# Altium integrated library Renesas Logic.IntLib: 1013 symbols (part 21 of 27)
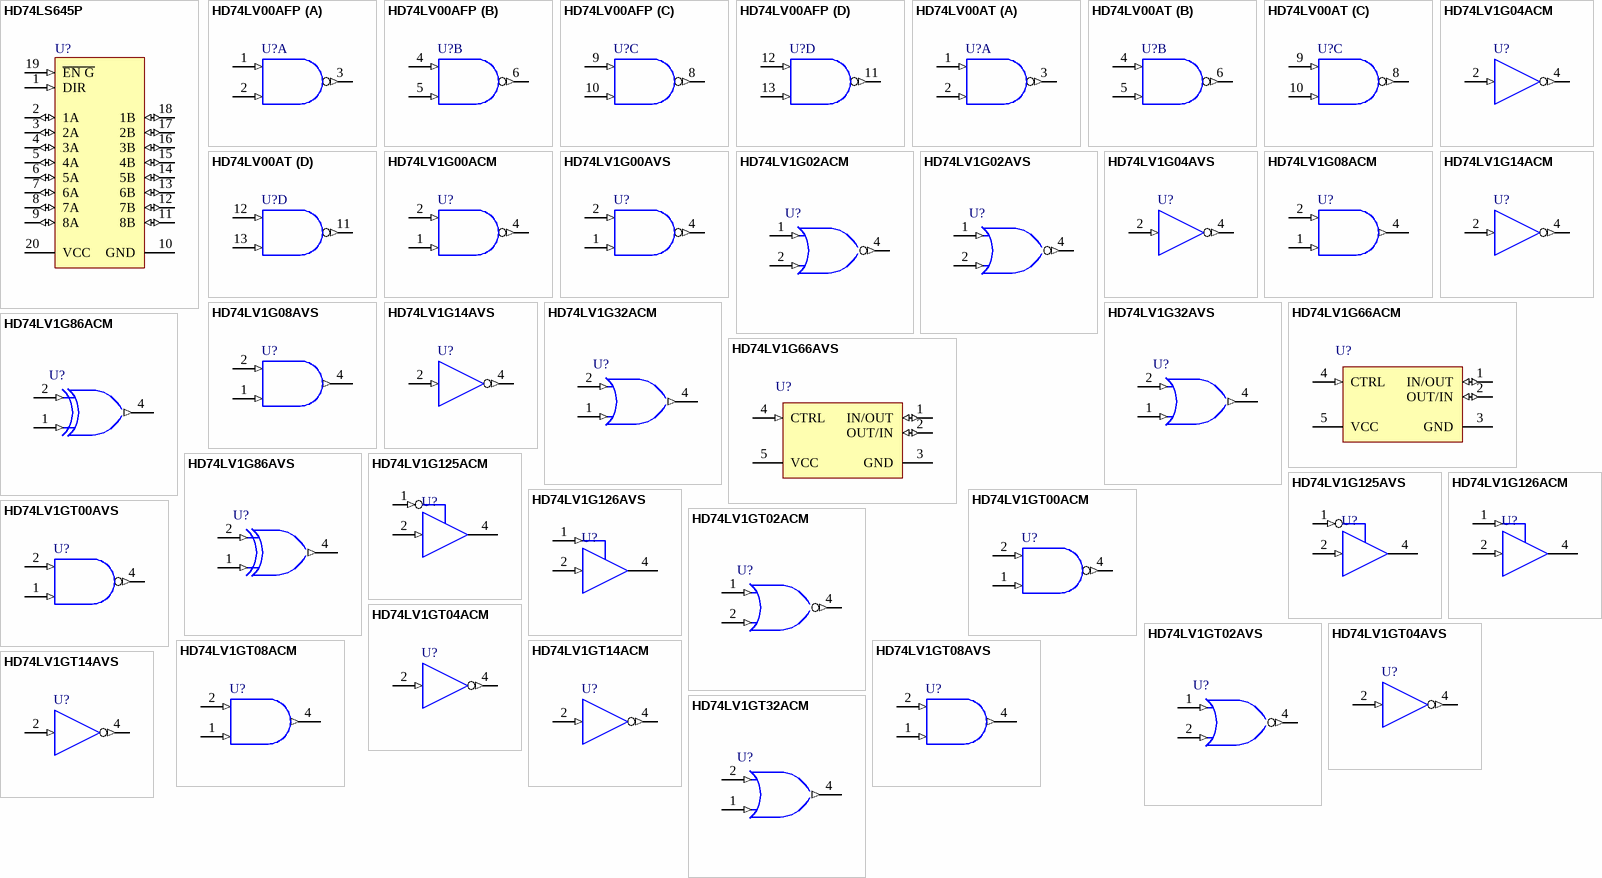
[diagram p73: symbols HD74LS645P to HD74LV1GT32ACM]

## HD74LV1GT00AVS
designator U?
2-Input NAND Gate with CMOS Logic Level Shifter; Published: 10-Feb-2010; DatasheetVersion: Rev.9.00, Mar-2008; PackageVersion: Sep-2005; PackageReference: PUSN0005KA-A; Publisher: Altium Limited; PackageDescription: 5-Pin Dual Lead-Flat Package 0.5 mm Pitch (VSON-5); Code_JEITA: P-USON5-1.2x1.6-0.50; ComponentLink1Description: Manufacturer Link; ComponentLink1URL: http://sg.renesas.com/fmwk.jsp?cnt=unilogic_lva_lvta_root.jsp&fp=/products/standard_ic/general_purpose_logic/uni_logic/unilogic_lva_lvta/; ComponentLink2Description: Datasheet; ComponentLink2URL: http://documentation.renesas.com/eng/products/logic/rej03d0115_hd74lv1gt00a.pdf; ComponentLink3Description: Packaging Specification; ComponentLink3URL: http://sg.renesas.com/media/products/common_info/package/pdf/ic/code/pusn0005ka_a.pdf
footprint PUSN0005KA-A (SOP, 5-Flat Leads, Body 1.6x1.2x0.55mm, Pitch 0.5mm, Renesas Recommended)
pins: 1 IN B (in), 2 IN A (in), 3 GND (power) hidden, 4 OUT Y (out), 5 VCC (power) hidden

## HD74LV1GT02ACM
designator U?
2-Input NOR Gate with CMOS Logic Level Shifter; Published: 10-Feb-2010; DatasheetVersion: Rev.9.00, Mar-2008; PackageVersion: Jan-2005; PackageReference: PTSP0005ZC-A; Publisher: Altium Limited; PackageDescription: 5-Pin Plastic SOT-353 Package 0.65 mm Pitch, 2.1 mm Lead Span; Code_JEITA: SC-88A; Code_IPC: SOT353-5; ComponentLink1Description: Manufacturer Link; ComponentLink1URL: http://sg.renesas.com/fmwk.jsp?cnt=unilogic_lva_lvta_root.jsp&fp=/products/standard_ic/general_purpose_logic/uni_logic/unilogic_lva_lvta/; ComponentLink2Description: Datasheet; ComponentLink2URL: http://documentation.renesas.com/eng/products/logic/rej03d0116_hd74lv1gt02a.pdf; ComponentLink3Description: Packaging Specification; ComponentLink3URL: http://sg.renesas.com/media/products/common_info/package/pdf/ic/code/ptsp0005zc_a.pdf
footprint PTSP0005ZC-A_N (SOT353, 5-Leads, Body 2x1.3mm, Pitch 0.65mm, Lead Span 2.1mm, IPC Medium Density)
footprint PTSP0005ZC-A_L (SOT353, 5-Leads, Body 2x1.3mm, Pitch 0.65mm, Lead Span 2.1mm, IPC High Density)
footprint PTSP0005ZC-A_M (SOT353, 5-Leads, Body 2x1.3mm, Pitch 0.65mm, Lead Span 2.1mm, IPC Low Density)
pins: 1 IN B (in), 2 IN A (in), 3 GND (power) hidden, 4 OUT Y (out), 5 VCC (power) hidden

## HD74LV1GT02AVS
designator U?
2-Input NOR Gate with CMOS Logic Level Shifter; Published: 10-Feb-2010; DatasheetVersion: Rev.9.00, Mar-2008; PackageVersion: Sep-2005; PackageReference: PUSN0005KA-A; Publisher: Altium Limited; PackageDescription: 5-Pin Dual Lead-Flat Package 0.5 mm Pitch (VSON-5); Code_JEITA: P-USON5-1.2x1.6-0.50; ComponentLink1Description: Manufacturer Link; ComponentLink1URL: http://sg.renesas.com/fmwk.jsp?cnt=unilogic_lva_lvta_root.jsp&fp=/products/standard_ic/general_purpose_logic/uni_logic/unilogic_lva_lvta/; ComponentLink2Description: Datasheet; ComponentLink2URL: http://documentation.renesas.com/eng/products/logic/rej03d0116_hd74lv1gt02a.pdf; ComponentLink3Description: Packaging Specification; ComponentLink3URL: http://sg.renesas.com/media/products/common_info/package/pdf/ic/code/pusn0005ka_a.pdf
footprint PUSN0005KA-A (SOP, 5-Flat Leads, Body 1.6x1.2x0.55mm, Pitch 0.5mm, Renesas Recommended)
pins: 1 IN B (in), 2 IN A (in), 3 GND (power) hidden, 4 OUT Y (out), 5 VCC (power) hidden

## HD74LV1GT04ACM
designator U?
Inverter with CMOS Logic Level Shifter; Published: 10-Feb-2010; DatasheetVersion: Rev.9.00, Mar-2008; PackageVersion: Jan-2005; PackageReference: PTSP0005ZC-A; Publisher: Altium Limited; PackageDescription: 5-Pin Plastic SOT-353 Package 0.65 mm Pitch, 2.1 mm Lead Span; Code_JEITA: SC-88A; Code_IPC: SOT353-5; ComponentLink1Description: Manufacturer Link; ComponentLink1URL: http://sg.renesas.com/fmwk.jsp?cnt=unilogic_lva_lvta_root.jsp&fp=/products/standard_ic/general_purpose_logic/uni_logic/unilogic_lva_lvta/; ComponentLink2Description: Datasheet; ComponentLink2URL: http://documentation.renesas.com/eng/products/logic/rej03d0117_hd74lv1gt04a.pdf; ComponentLink3Description: Packaging Specification; ComponentLink3URL: http://sg.renesas.com/media/products/common_info/package/pdf/ic/code/ptsp0005zc_a.pdf
footprint PTSP0005ZC-A_N (SOT353, 5-Leads, Body 2x1.3mm, Pitch 0.65mm, Lead Span 2.1mm, IPC Medium Density)
footprint PTSP0005ZC-A_L (SOT353, 5-Leads, Body 2x1.3mm, Pitch 0.65mm, Lead Span 2.1mm, IPC High Density)
footprint PTSP0005ZC-A_M (SOT353, 5-Leads, Body 2x1.3mm, Pitch 0.65mm, Lead Span 2.1mm, IPC Low Density)
pins: 1 NC hidden, 2 IN A (in), 3 GND (power) hidden, 4 OUT ~{Y} (out), 5 VCC (power) hidden

## HD74LV1GT04AVS
designator U?
Inverter with CMOS Logic Level Shifter; Published: 10-Feb-2010; DatasheetVersion: Rev.9.00, Mar-2008; PackageVersion: Sep-2005; PackageReference: PUSN0005KA-A; Publisher: Altium Limited; PackageDescription: 5-Pin Dual Lead-Flat Package 0.5 mm Pitch (VSON-5); Code_JEITA: P-USON5-1.2x1.6-0.50; ComponentLink1Description: Manufacturer Link; ComponentLink1URL: http://sg.renesas.com/fmwk.jsp?cnt=unilogic_lva_lvta_root.jsp&fp=/products/standard_ic/general_purpose_logic/uni_logic/unilogic_lva_lvta/; ComponentLink2Description: Datasheet; ComponentLink2URL: http://documentation.renesas.com/eng/products/logic/rej03d0117_hd74lv1gt04a.pdf; ComponentLink3Description: Packaging Specification; ComponentLink3URL: http://sg.renesas.com/media/products/common_info/package/pdf/ic/code/pusn0005ka_a.pdf
footprint PUSN0005KA-A (SOP, 5-Flat Leads, Body 1.6x1.2x0.55mm, Pitch 0.5mm, Renesas Recommended)
pins: 1 NC hidden, 2 IN A (in), 3 GND (power) hidden, 4 OUT ~{Y} (out), 5 VCC (power) hidden

## HD74LV1GT08ACM
designator U?
2-Input AND Gate with CMOS Logic Level Shifter; Published: 10-Feb-2010; DatasheetVersion: Rev.9.00, Mar-2008; PackageVersion: Jan-2005; PackageReference: PTSP0005ZC-A; Publisher: Altium Limited; PackageDescription: 5-Pin Plastic SOT-353 Package 0.65 mm Pitch, 2.1 mm Lead Span; Code_JEITA: SC-88A; Code_IPC: SOT353-5; ComponentLink1Description: Manufacturer Link; ComponentLink1URL: http://sg.renesas.com/fmwk.jsp?cnt=unilogic_lva_lvta_root.jsp&fp=/products/standard_ic/general_purpose_logic/uni_logic/unilogic_lva_lvta/; ComponentLink2Description: Datasheet; ComponentLink2URL: http://documentation.renesas.com/eng/products/logic/rej03d0118_hd74lv1gt08a.pdf; ComponentLink3Description: Packaging Specification; ComponentLink3URL: http://sg.renesas.com/media/products/common_info/package/pdf/ic/code/ptsp0005zc_a.pdf
footprint PTSP0005ZC-A_N (SOT353, 5-Leads, Body 2x1.3mm, Pitch 0.65mm, Lead Span 2.1mm, IPC Medium Density)
footprint PTSP0005ZC-A_L (SOT353, 5-Leads, Body 2x1.3mm, Pitch 0.65mm, Lead Span 2.1mm, IPC High Density)
footprint PTSP0005ZC-A_M (SOT353, 5-Leads, Body 2x1.3mm, Pitch 0.65mm, Lead Span 2.1mm, IPC Low Density)
pins: 1 IN B (in), 2 IN A (in), 3 GND (power) hidden, 4 OUT Y (out), 5 VCC (power) hidden

## HD74LV1GT08AVS
designator U?
2-Input AND Gate with CMOS Logic Level Shifter; Published: 10-Feb-2010; DatasheetVersion: Rev.9.00, Mar-2008; PackageVersion: Sep-2005; PackageReference: PUSN0005KA-A; Publisher: Altium Limited; PackageDescription: 5-Pin Dual Lead-Flat Package 0.5 mm Pitch (VSON-5); Code_JEITA: P-USON5-1.2x1.6-0.50; ComponentLink1Description: Manufacturer Link; ComponentLink1URL: http://sg.renesas.com/fmwk.jsp?cnt=unilogic_lva_lvta_root.jsp&fp=/products/standard_ic/general_purpose_logic/uni_logic/unilogic_lva_lvta/; ComponentLink2Description: Datasheet; ComponentLink2URL: http://documentation.renesas.com/eng/products/logic/rej03d0118_hd74lv1gt08a.pdf; ComponentLink3Description: Packaging Specification; ComponentLink3URL: http://sg.renesas.com/media/products/common_info/package/pdf/ic/code/pusn0005ka_a.pdf
footprint PUSN0005KA-A (SOP, 5-Flat Leads, Body 1.6x1.2x0.55mm, Pitch 0.5mm, Renesas Recommended)
pins: 1 IN B (in), 2 IN A (in), 3 GND (power) hidden, 4 OUT Y (out), 5 VCC (power) hidden

## HD74LV1GT14ACM
designator U?
Schmitt Trigger Inverters with CMOS Logic Level Shifter; Published: 10-Feb-2010; DatasheetVersion: Rev.7.00, Mar-2008; PackageVersion: Jan-2005; PackageReference: PTSP0005ZC-A; Publisher: Altium Limited; PackageDescription: 5-Pin Plastic SOT-353 Package 0.65 mm Pitch, 2.1 mm Lead Span; Code_JEITA: SC-88A; Code_IPC: SOT353-5; ComponentLink1Description: Manufacturer Link; ComponentLink1URL: http://sg.renesas.com/fmwk.jsp?cnt=unilogic_lva_lvta_root.jsp&fp=/products/standard_ic/general_purpose_logic/uni_logic/unilogic_lva_lvta/; ComponentLink2Description: Datasheet; ComponentLink2URL: http://documentation.renesas.com/eng/products/logic/rej03d0119_hd74lv1gt14a.pdf; ComponentLink3Description: Packaging Specification; ComponentLink3URL: http://sg.renesas.com/media/products/common_info/package/pdf/ic/code/ptsp0005zc_a.pdf
footprint PTSP0005ZC-A_N (SOT353, 5-Leads, Body 2x1.3mm, Pitch 0.65mm, Lead Span 2.1mm, IPC Medium Density)
footprint PTSP0005ZC-A_L (SOT353, 5-Leads, Body 2x1.3mm, Pitch 0.65mm, Lead Span 2.1mm, IPC High Density)
footprint PTSP0005ZC-A_M (SOT353, 5-Leads, Body 2x1.3mm, Pitch 0.65mm, Lead Span 2.1mm, IPC Low Density)
pins: 1 NC hidden, 2 IN A (in), 3 GND (power) hidden, 4 OUT ~{Y} (out), 5 VCC (power) hidden

## HD74LV1GT14AVS
designator U?
Schmitt Trigger Inverters with CMOS Logic Level Shifter; Published: 10-Feb-2010; DatasheetVersion: Rev.7.00, Mar-2008; PackageVersion: Sep-2005; PackageReference: PUSN0005KA-A; Publisher: Altium Limited; PackageDescription: 5-Pin Dual Lead-Flat Package 0.5 mm Pitch (VSON-5); Code_JEITA: P-USON5-1.2x1.6-0.50; ComponentLink1Description: Manufacturer Link; ComponentLink1URL: http://sg.renesas.com/fmwk.jsp?cnt=unilogic_lva_lvta_root.jsp&fp=/products/standard_ic/general_purpose_logic/uni_logic/unilogic_lva_lvta/; ComponentLink2Description: Datasheet; ComponentLink2URL: http://documentation.renesas.com/eng/products/logic/rej03d0119_hd74lv1gt14a.pdf; ComponentLink3Description: Packaging Specification; ComponentLink3URL: http://sg.renesas.com/media/products/common_info/package/pdf/ic/code/pusn0005ka_a.pdf
footprint PUSN0005KA-A (SOP, 5-Flat Leads, Body 1.6x1.2x0.55mm, Pitch 0.5mm, Renesas Recommended)
pins: 1 NC hidden, 2 IN A (in), 3 GND (power) hidden, 4 OUT ~{Y} (out), 5 VCC (power) hidden

## HD74LV1GT32ACM
designator U?
2-Input OR Gate with CMOS Logic Level Shifter; Published: 10-Feb-2010; DatasheetVersion: Rev.9.00, Mar-2008; PackageVersion: Jan-2005; PackageReference: PTSP0005ZC-A; Publisher: Altium Limited; PackageDescription: 5-Pin Plastic SOT-353 Package 0.65 mm Pitch, 2.1 mm Lead Span; Code_JEITA: SC-88A; Code_IPC: SOT353-5; ComponentLink1Description: Manufacturer Link; ComponentLink1URL: http://sg.renesas.com/fmwk.jsp?cnt=unilogic_lva_lvta_root.jsp&fp=/products/standard_ic/general_purpose_logic/uni_logic/unilogic_lva_lvta/; ComponentLink2Description: Datasheet; ComponentLink2URL: http://documentation.renesas.com/eng/products/logic/rej03d0120_hd74lv1gt32a.pdf; ComponentLink3Description: Packaging Specification; ComponentLink3URL: http://sg.renesas.com/media/products/common_info/package/pdf/ic/code/ptsp0005zc_a.pdf
footprint PTSP0005ZC-A_N (SOT353, 5-Leads, Body 2x1.3mm, Pitch 0.65mm, Lead Span 2.1mm, IPC Medium Density)
footprint PTSP0005ZC-A_L (SOT353, 5-Leads, Body 2x1.3mm, Pitch 0.65mm, Lead Span 2.1mm, IPC High Density)
footprint PTSP0005ZC-A_M (SOT353, 5-Leads, Body 2x1.3mm, Pitch 0.65mm, Lead Span 2.1mm, IPC Low Density)
pins: 1 IN B (in), 2 IN A (in), 3 GND (power) hidden, 4 OUT Y (out), 5 VCC (power) hidden

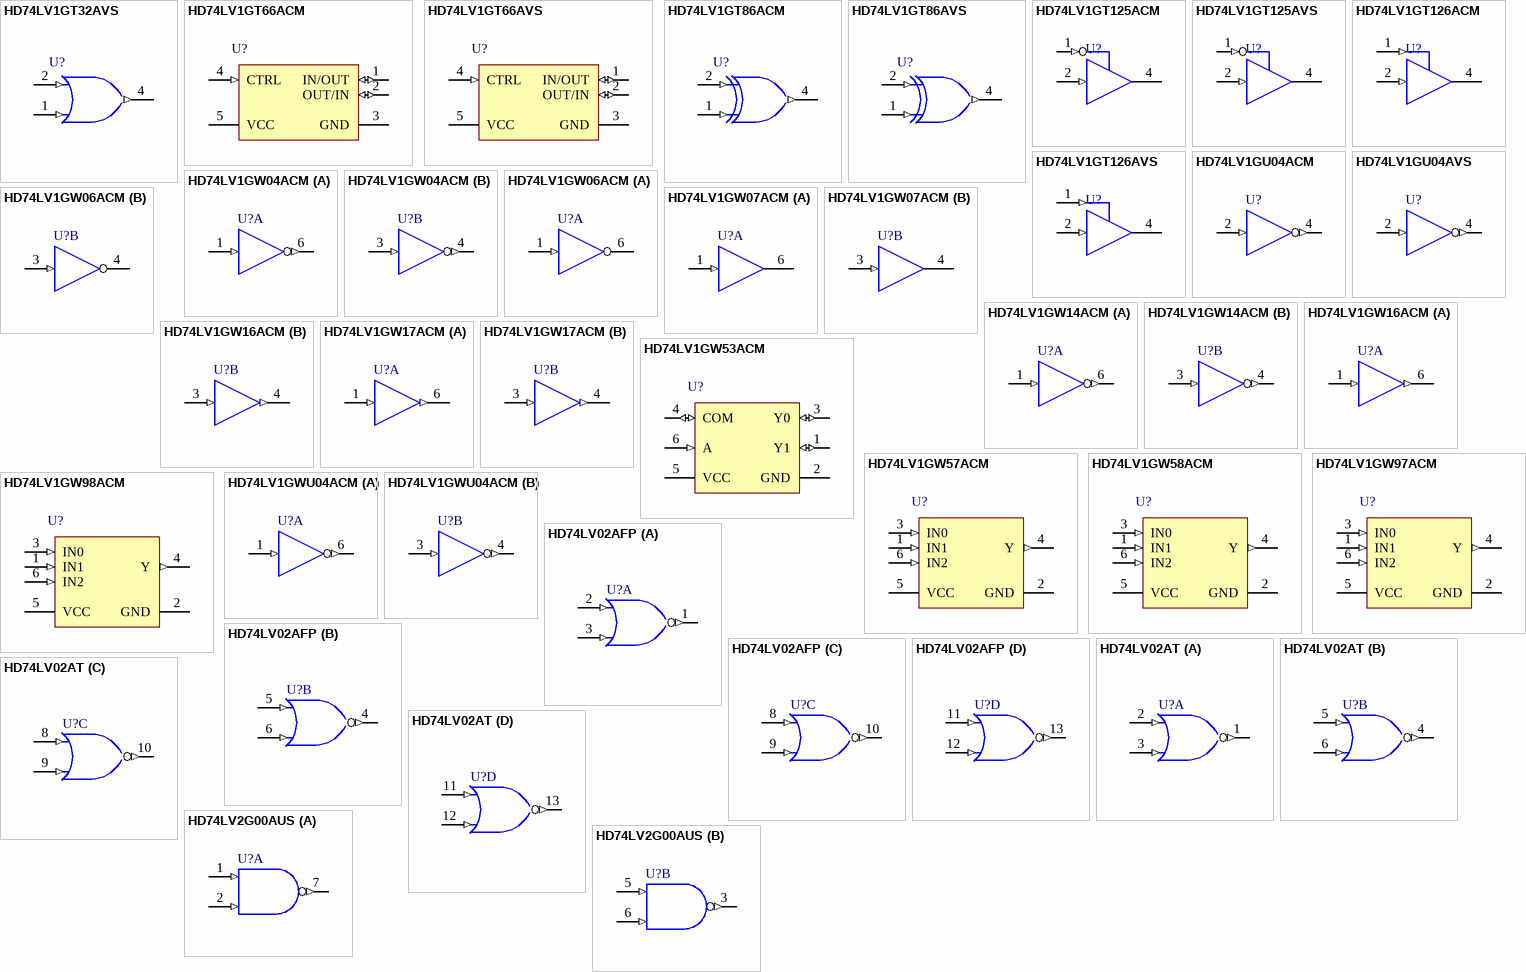
[diagram p39: symbols HD74LV1GT32AVS to HD74LV2G00AUS]

## HD74LV1GT32AVS
designator U?
2-Input OR Gate with CMOS Logic Level Shifter; Published: 10-Feb-2010; DatasheetVersion: Rev.9.00, Mar-2008; PackageVersion: Sep-2005; PackageReference: PUSN0005KA-A; Publisher: Altium Limited; PackageDescription: 5-Pin Dual Lead-Flat Package 0.5 mm Pitch (VSON-5); Code_JEITA: P-USON5-1.2x1.6-0.50; ComponentLink1Description: Manufacturer Link; ComponentLink1URL: http://sg.renesas.com/fmwk.jsp?cnt=unilogic_lva_lvta_root.jsp&fp=/products/standard_ic/general_purpose_logic/uni_logic/unilogic_lva_lvta/; ComponentLink2Description: Datasheet; ComponentLink2URL: http://documentation.renesas.com/eng/products/logic/rej03d0120_hd74lv1gt32a.pdf; ComponentLink3Description: Packaging Specification; ComponentLink3URL: http://sg.renesas.com/media/products/common_info/package/pdf/ic/code/pusn0005ka_a.pdf
footprint PUSN0005KA-A (SOP, 5-Flat Leads, Body 1.6x1.2x0.55mm, Pitch 0.5mm, Renesas Recommended)
pins: 1 IN B (in), 2 IN A (in), 3 GND (power) hidden, 4 OUT Y (out), 5 VCC (power) hidden

## HD74LV1GT66ACM
designator U?
Analog Switch; Published: 10-Feb-2010; DatasheetVersion: Rev.8.00, Mar-2008; PackageVersion: Jan-2005; PackageReference: PTSP0005ZC-A; Publisher: Altium Limited; PackageDescription: 5-Pin Plastic SOT-353 Package 0.65 mm Pitch, 2.1 mm Lead Span; Code_JEITA: SC-88A; Code_IPC: SOT353-5; ComponentLink1Description: Manufacturer Link; ComponentLink1URL: http://sg.renesas.com/fmwk.jsp?cnt=unilogic_lva_lvta_root.jsp&fp=/products/standard_ic/general_purpose_logic/uni_logic/unilogic_lva_lvta/; ComponentLink2Description: Datasheet; ComponentLink2URL: http://documentation.renesas.com/eng/products/logic/rej03d0121_hd74lv1gt66a.pdf; ComponentLink3Description: Packaging Specification; ComponentLink3URL: http://sg.renesas.com/media/products/common_info/package/pdf/ic/code/ptsp0005zc_a.pdf
footprint PTSP0005ZC-A_N (SOT353, 5-Leads, Body 2x1.3mm, Pitch 0.65mm, Lead Span 2.1mm, IPC Medium Density)
footprint PTSP0005ZC-A_L (SOT353, 5-Leads, Body 2x1.3mm, Pitch 0.65mm, Lead Span 2.1mm, IPC High Density)
footprint PTSP0005ZC-A_M (SOT353, 5-Leads, Body 2x1.3mm, Pitch 0.65mm, Lead Span 2.1mm, IPC Low Density)
pins: 1 IN/OUT (io), 2 OUT/IN (io), 3 GND (power), 4 CTRL (in), 5 VCC (power)

## HD74LV1GT66AVS
designator U?
Analog Switch; Published: 10-Feb-2010; DatasheetVersion: Rev.8.00, Mar-2008; PackageVersion: Sep-2005; PackageReference: PUSN0005KA-A; Publisher: Altium Limited; PackageDescription: 5-Pin Dual Lead-Flat Package 0.5 mm Pitch (VSON-5); Code_JEITA: P-USON5-1.2x1.6-0.50; ComponentLink1Description: Manufacturer Link; ComponentLink1URL: http://sg.renesas.com/fmwk.jsp?cnt=unilogic_lva_lvta_root.jsp&fp=/products/standard_ic/general_purpose_logic/uni_logic/unilogic_lva_lvta/; ComponentLink2Description: Datasheet; ComponentLink2URL: http://documentation.renesas.com/eng/products/logic/rej03d0121_hd74lv1gt66a.pdf; ComponentLink3Description: Packaging Specification; ComponentLink3URL: http://sg.renesas.com/media/products/common_info/package/pdf/ic/code/pusn0005ka_a.pdf
footprint PUSN0005KA-A (SOP, 5-Flat Leads, Body 1.6x1.2x0.55mm, Pitch 0.5mm, Renesas Recommended)
pins: 1 IN/OUT (io), 2 OUT/IN (io), 3 GND (power), 4 CTRL (in), 5 VCC (power)

## HD74LV1GT86ACM
designator U?
2-Input Exclusive-OR Gate with CMOS Logic Level Shifter; Published: 10-Feb-2010; DatasheetVersion: Rev.10.00, Mar-2008; PackageVersion: Jan-2005; PackageReference: PTSP0005ZC-A; Publisher: Altium Limited; PackageDescription: 5-Pin Plastic SOT-353 Package 0.65 mm Pitch, 2.1 mm Lead Span; Code_JEITA: SC-88A; Code_IPC: SOT353-5; ComponentLink1Description: Manufacturer Link; ComponentLink1URL: http://sg.renesas.com/fmwk.jsp?cnt=unilogic_lva_lvta_root.jsp&fp=/products/standard_ic/general_purpose_logic/uni_logic/unilogic_lva_lvta/; ComponentLink2Description: Datasheet; ComponentLink2URL: http://documentation.renesas.com/eng/products/logic/rej03d0122_hd74lv1gt86a.pdf; ComponentLink3Description: Packaging Specification; ComponentLink3URL: http://sg.renesas.com/media/products/common_info/package/pdf/ic/code/ptsp0005zc_a.pdf
footprint PTSP0005ZC-A_N (SOT353, 5-Leads, Body 2x1.3mm, Pitch 0.65mm, Lead Span 2.1mm, IPC Medium Density)
footprint PTSP0005ZC-A_L (SOT353, 5-Leads, Body 2x1.3mm, Pitch 0.65mm, Lead Span 2.1mm, IPC High Density)
footprint PTSP0005ZC-A_M (SOT353, 5-Leads, Body 2x1.3mm, Pitch 0.65mm, Lead Span 2.1mm, IPC Low Density)
pins: 1 IN B (in), 2 IN A (in), 3 GND (power) hidden, 4 OUT Y (out), 5 VCC (power) hidden

## HD74LV1GT86AVS
designator U?
2-Input Exclusive-OR Gate with CMOS Logic Level Shifter; Published: 10-Feb-2010; DatasheetVersion: Rev.10.00, Mar-2008; PackageVersion: Sep-2005; PackageReference: PUSN0005KA-A; Publisher: Altium Limited; PackageDescription: 5-Pin Dual Lead-Flat Package 0.5 mm Pitch (VSON-5); Code_JEITA: P-USON5-1.2x1.6-0.50; ComponentLink1Description: Manufacturer Link; ComponentLink1URL: http://sg.renesas.com/fmwk.jsp?cnt=unilogic_lva_lvta_root.jsp&fp=/products/standard_ic/general_purpose_logic/uni_logic/unilogic_lva_lvta/; ComponentLink2Description: Datasheet; ComponentLink2URL: http://documentation.renesas.com/eng/products/logic/rej03d0122_hd74lv1gt86a.pdf; ComponentLink3Description: Packaging Specification; ComponentLink3URL: http://sg.renesas.com/media/products/common_info/package/pdf/ic/code/pusn0005ka_a.pdf
footprint PUSN0005KA-A (SOP, 5-Flat Leads, Body 1.6x1.2x0.55mm, Pitch 0.5mm, Renesas Recommended)
pins: 1 IN B (in), 2 IN A (in), 3 GND (power) hidden, 4 OUT Y (out), 5 VCC (power) hidden

## HD74LV1GT125ACM
designator U?
Bus Buffer Gates with 3-State Outputs and CMOS Logic Level Shifter; Published: 10-Feb-2010; DatasheetVersion: Rev.9.00, Mar-2008; PackageVersion: Jan-2005; PackageReference: PTSP0005ZC-A; Publisher: Altium Limited; PackageDescription: 5-Pin Plastic SOT-353 Package 0.65 mm Pitch, 2.1 mm Lead Span; Code_JEITA: SC-88A; Code_IPC: SOT353-5; ComponentLink1Description: Manufacturer Link; ComponentLink1URL: http://sg.renesas.com/fmwk.jsp?cnt=unilogic_lva_lvta_root.jsp&fp=/products/standard_ic/general_purpose_logic/uni_logic/unilogic_lva_lvta/; ComponentLink2Description: Datasheet; ComponentLink2URL: http://documentation.renesas.com/eng/products/logic/rej03d0123_hd74lv1gt125a.pdf; ComponentLink3Description: Packaging Specification; ComponentLink3URL: http://sg.renesas.com/media/products/common_info/package/pdf/ic/code/ptsp0005zc_a.pdf
footprint PTSP0005ZC-A_N (SOT353, 5-Leads, Body 2x1.3mm, Pitch 0.65mm, Lead Span 2.1mm, IPC Medium Density)
footprint PTSP0005ZC-A_L (SOT353, 5-Leads, Body 2x1.3mm, Pitch 0.65mm, Lead Span 2.1mm, IPC High Density)
footprint PTSP0005ZC-A_M (SOT353, 5-Leads, Body 2x1.3mm, Pitch 0.65mm, Lead Span 2.1mm, IPC Low Density)
pins: 1 ~{OE} (in), 2 A (in), 3 GND (power) hidden, 4 Y (hiz), 5 VCC (power) hidden

## HD74LV1GT125AVS
designator U?
Bus Buffer Gates with 3-State Outputs and CMOS Logic Level Shifter; Published: 10-Feb-2010; DatasheetVersion: Rev.9.00, Mar-2008; PackageVersion: Sep-2005; PackageReference: PUSN0005KA-A; Publisher: Altium Limited; PackageDescription: 5-Pin Dual Lead-Flat Package 0.5 mm Pitch (VSON-5); Code_JEITA: P-USON5-1.2x1.6-0.50; ComponentLink1Description: Manufacturer Link; ComponentLink1URL: http://sg.renesas.com/fmwk.jsp?cnt=unilogic_lva_lvta_root.jsp&fp=/products/standard_ic/general_purpose_logic/uni_logic/unilogic_lva_lvta/; ComponentLink2Description: Datasheet; ComponentLink2URL: http://documentation.renesas.com/eng/products/logic/rej03d0123_hd74lv1gt125a.pdf; ComponentLink3Description: Packaging Specification; ComponentLink3URL: http://sg.renesas.com/media/products/common_info/package/pdf/ic/code/pusn0005ka_a.pdf
footprint PUSN0005KA-A (SOP, 5-Flat Leads, Body 1.6x1.2x0.55mm, Pitch 0.5mm, Renesas Recommended)
pins: 1 ~{OE} (in), 2 A (in), 3 GND (power) hidden, 4 Y (hiz), 5 VCC (power) hidden

## HD74LV1GT126ACM
designator U?
Bus Buffer Gates with 3-State Outputs and CMOS Logic Level Shifter; Published: 10-Feb-2010; DatasheetVersion: Rev.9.00, Mar-2008; PackageVersion: Jan-2005; PackageReference: PTSP0005ZC-A; Publisher: Altium Limited; PackageDescription: 5-Pin Plastic SOT-353 Package 0.65 mm Pitch, 2.1 mm Lead Span; Code_JEITA: SC-88A; Code_IPC: SOT353-5; ComponentLink1Description: Manufacturer Link; ComponentLink1URL: http://sg.renesas.com/fmwk.jsp?cnt=unilogic_lva_lvta_root.jsp&fp=/products/standard_ic/general_purpose_logic/uni_logic/unilogic_lva_lvta/; ComponentLink2Description: Datasheet; ComponentLink2URL: http://documentation.renesas.com/eng/products/logic/rej03d0124_hd74lv1gt126a.pdf; ComponentLink3Description: Packaging Specification; ComponentLink3URL: http://sg.renesas.com/media/products/common_info/package/pdf/ic/code/ptsp0005zc_a.pdf
footprint PTSP0005ZC-A_N (SOT353, 5-Leads, Body 2x1.3mm, Pitch 0.65mm, Lead Span 2.1mm, IPC Medium Density)
footprint PTSP0005ZC-A_L (SOT353, 5-Leads, Body 2x1.3mm, Pitch 0.65mm, Lead Span 2.1mm, IPC High Density)
footprint PTSP0005ZC-A_M (SOT353, 5-Leads, Body 2x1.3mm, Pitch 0.65mm, Lead Span 2.1mm, IPC Low Density)
pins: 1 OE (in), 2 A (in), 3 GND (power) hidden, 4 Y (hiz), 5 VCC (power) hidden

## HD74LV1GT126AVS
designator U?
Bus Buffer Gates with 3-State Outputs and CMOS Logic Level Shifter; Published: 10-Feb-2010; DatasheetVersion: Rev.9.00, Mar-2008; PackageVersion: Sep-2005; PackageReference: PUSN0005KA-A; Publisher: Altium Limited; PackageDescription: 5-Pin Dual Lead-Flat Package 0.5 mm Pitch (VSON-5); Code_JEITA: P-USON5-1.2x1.6-0.50; ComponentLink1Description: Manufacturer Link; ComponentLink1URL: http://sg.renesas.com/fmwk.jsp?cnt=unilogic_lva_lvta_root.jsp&fp=/products/standard_ic/general_purpose_logic/uni_logic/unilogic_lva_lvta/; ComponentLink2Description: Datasheet; ComponentLink2URL: http://documentation.renesas.com/eng/products/logic/rej03d0124_hd74lv1gt126a.pdf; ComponentLink3Description: Packaging Specification; ComponentLink3URL: http://sg.renesas.com/media/products/common_info/package/pdf/ic/code/pusn0005ka_a.pdf
footprint PUSN0005KA-A (SOP, 5-Flat Leads, Body 1.6x1.2x0.55mm, Pitch 0.5mm, Renesas Recommended)
pins: 1 OE (in), 2 A (in), 3 GND (power) hidden, 4 Y (hiz), 5 VCC (power) hidden

## HD74LV1GU04ACM
designator U?
Unbuffered Inverter; Published: 10-Feb-2010; DatasheetVersion: Rev.7.00, Mar-2008; PackageVersion: Jan-2005; PackageReference: PTSP0005ZC-A; Publisher: Altium Limited; PackageDescription: 5-Pin Plastic SOT-353 Package 0.65 mm Pitch, 2.1 mm Lead Span; Code_JEITA: SC-88A; Code_IPC: SOT353-5; ComponentLink1Description: Manufacturer Link; ComponentLink1URL: http://sg.renesas.com/fmwk.jsp?cnt=unilogic_lva_lvta_root.jsp&fp=/products/standard_ic/general_purpose_logic/uni_logic/unilogic_lva_lvta/; ComponentLink2Description: Datasheet; ComponentLink2URL: http://documentation.renesas.com/eng/products/logic/rej03d0065_hd74lv1gu04a.pdf; ComponentLink3Description: Packaging Specification; ComponentLink3URL: http://sg.renesas.com/media/products/common_info/package/pdf/ic/code/ptsp0005zc_a.pdf
footprint PTSP0005ZC-A_N (SOT353, 5-Leads, Body 2x1.3mm, Pitch 0.65mm, Lead Span 2.1mm, IPC Medium Density)
footprint PTSP0005ZC-A_L (SOT353, 5-Leads, Body 2x1.3mm, Pitch 0.65mm, Lead Span 2.1mm, IPC High Density)
footprint PTSP0005ZC-A_M (SOT353, 5-Leads, Body 2x1.3mm, Pitch 0.65mm, Lead Span 2.1mm, IPC Low Density)
pins: 1 NC hidden, 2 IN A (in), 3 GND (power) hidden, 4 OUT ~{Y} (out), 5 VCC (power) hidden

## HD74LV1GU04AVS
designator U?
Unbuffered Inverter; Published: 10-Feb-2010; DatasheetVersion: Rev.7.00, Mar-2008; PackageVersion: Sep-2005; PackageReference: PUSN0005KA-A; Publisher: Altium Limited; PackageDescription: 5-Pin Dual Lead-Flat Package 0.5 mm Pitch (VSON-5); Code_JEITA: P-USON5-1.2x1.6-0.50; ComponentLink1Description: Manufacturer Link; ComponentLink1URL: http://sg.renesas.com/fmwk.jsp?cnt=unilogic_lva_lvta_root.jsp&fp=/products/standard_ic/general_purpose_logic/uni_logic/unilogic_lva_lvta/; ComponentLink2Description: Datasheet; ComponentLink2URL: http://documentation.renesas.com/eng/products/logic/rej03d0065_hd74lv1gu04a.pdf; ComponentLink3Description: Packaging Specification; ComponentLink3URL: http://sg.renesas.com/media/products/common_info/package/pdf/ic/code/pusn0005ka_a.pdf
footprint PUSN0005KA-A (SOP, 5-Flat Leads, Body 1.6x1.2x0.55mm, Pitch 0.5mm, Renesas Recommended)
pins: 1 NC hidden, 2 IN A (in), 3 GND (power) hidden, 4 OUT ~{Y} (out), 5 VCC (power) hidden

## HD74LV1GW04ACM
designator U?
Dual Inverter; Published: 10-Feb-2010; DatasheetVersion: Rev.2.00, May-2006; PackageVersion: Jan-2005; PackageReference: PTSP0006JA-A; Publisher: Altium Limited; PackageDescription: 6-Pin Plastic SOT-363 Package 0.65 mm Pitch, 2.1 mm Lead Span; Code_JEITA: SC-88; ComponentLink1Description: Manufacturer Link; ComponentLink1URL: http://sg.renesas.com/fmwk.jsp?cnt=unilogic_lva_lvta_root.jsp&fp=/products/standard_ic/general_purpose_logic/uni_logic/unilogic_lva_lvta/; ComponentLink2Description: Datasheet; ComponentLink2URL: http://documentation.renesas.com/eng/products/logic/rej03d0073_hd74lv1gw04a.pdf; ComponentLink3Description: Packaging Specification; ComponentLink3URL: http://sg.renesas.com/media/products/common_info/package/pdf/ic/code/ptsp0006ja_a.pdf
footprint PTSP0006JA-A_N (SOT363, 6-Leads, Body 2x1.3mm, Pitch 0.65mm, Lead Span 2.1mm, IPC Medium Density)
footprint PTSP0006JA-A_L (SOT363, 6-Leads, Body 2x1.3mm, Pitch 0.65mm, Lead Span 2.1mm, IPC High Density)
footprint PTSP0006JA-A_M (SOT363, 6-Leads, Body 2x1.3mm, Pitch 0.65mm, Lead Span 2.1mm, IPC Low Density)
pins on every part: 2 GND (power) hidden, 5 VCC (power) hidden
part A pins: 1 1A (in), 6 1~{Y} (out)
part B pins: 3 2A (in), 4 2~{Y} (out)

## HD74LV1GW06ACM
designator U?
Dual Inverter Open Drain; Published: 10-Feb-2010; DatasheetVersion: Rev.3.00, Sep-2006; PackageVersion: Jan-2005; PackageReference: PTSP0006JA-A; Publisher: Altium Limited; PackageDescription: 6-Pin Plastic SOT-363 Package 0.65 mm Pitch, 2.1 mm Lead Span; Code_JEITA: SC-88; ComponentLink1Description: Manufacturer Link; ComponentLink1URL: http://sg.renesas.com/fmwk.jsp?cnt=unilogic_lva_lvta_root.jsp&fp=/products/standard_ic/general_purpose_logic/uni_logic/unilogic_lva_lvta/; ComponentLink2Description: Datasheet; ComponentLink2URL: http://documentation.renesas.com/eng/products/logic/rej03d0075_hd74lv1gw06a.pdf; ComponentLink3Description: Packaging Specification; ComponentLink3URL: http://sg.renesas.com/media/products/common_info/package/pdf/ic/code/ptsp0006ja_a.pdf
footprint PTSP0006JA-A_N (SOT363, 6-Leads, Body 2x1.3mm, Pitch 0.65mm, Lead Span 2.1mm, IPC Medium Density)
footprint PTSP0006JA-A_L (SOT363, 6-Leads, Body 2x1.3mm, Pitch 0.65mm, Lead Span 2.1mm, IPC High Density)
footprint PTSP0006JA-A_M (SOT363, 6-Leads, Body 2x1.3mm, Pitch 0.65mm, Lead Span 2.1mm, IPC Low Density)
pins on every part: 2 GND (power) hidden, 5 VCC (power) hidden
part A pins: 1 1A (in), 6 1~{Y} (oc)
part B pins: 3 2A (in), 4 2~{Y} (oc)

## HD74LV1GW07ACM
designator U?
Dual Buffer Open Drain; Published: 10-Feb-2010; DatasheetVersion: Rev.3.00, Sep-2006; PackageVersion: Jan-2005; PackageReference: PTSP0006JA-A; Publisher: Altium Limited; PackageDescription: 6-Pin Plastic SOT-363 Package 0.65 mm Pitch, 2.1 mm Lead Span; Code_JEITA: SC-88; ComponentLink1Description: Manufacturer Link; ComponentLink1URL: http://sg.renesas.com/fmwk.jsp?cnt=unilogic_lva_lvta_root.jsp&fp=/products/standard_ic/general_purpose_logic/uni_logic/unilogic_lva_lvta/; ComponentLink2Description: Datasheet; ComponentLink2URL: http://documentation.renesas.com/eng/products/logic/rej03d0076_hd74lv1gw07a.pdf; ComponentLink3Description: Packaging Specification; ComponentLink3URL: http://sg.renesas.com/media/products/common_info/package/pdf/ic/code/ptsp0006ja_a.pdf
footprint PTSP0006JA-A_N (SOT363, 6-Leads, Body 2x1.3mm, Pitch 0.65mm, Lead Span 2.1mm, IPC Medium Density)
footprint PTSP0006JA-A_L (SOT363, 6-Leads, Body 2x1.3mm, Pitch 0.65mm, Lead Span 2.1mm, IPC High Density)
footprint PTSP0006JA-A_M (SOT363, 6-Leads, Body 2x1.3mm, Pitch 0.65mm, Lead Span 2.1mm, IPC Low Density)
pins on every part: 2 GND (power) hidden, 5 VCC (power) hidden
part A pins: 1 1A (in), 6 1Y (oc)
part B pins: 3 2A (in), 4 2Y (oc)

## HD74LV1GW14ACM
designator U?
Dual Inverter with Schmitt Trigger Input; Published: 10-Feb-2010; DatasheetVersion: Rev.2.00, May-2006; PackageVersion: Jan-2005; PackageReference: PTSP0006JA-A; Publisher: Altium Limited; PackageDescription: 6-Pin Plastic SOT-363 Package 0.65 mm Pitch, 2.1 mm Lead Span; Code_JEITA: SC-88; ComponentLink1Description: Manufacturer Link; ComponentLink1URL: http://sg.renesas.com/fmwk.jsp?cnt=unilogic_lva_lvta_root.jsp&fp=/products/standard_ic/general_purpose_logic/uni_logic/unilogic_lva_lvta/; ComponentLink2Description: Datasheet; ComponentLink2URL: http://documentation.renesas.com/eng/products/logic/rej03d0077_hd74lv1gw14a.pdf; ComponentLink3Description: Packaging Specification; ComponentLink3URL: http://sg.renesas.com/media/products/common_info/package/pdf/ic/code/ptsp0006ja_a.pdf
footprint PTSP0006JA-A_N (SOT363, 6-Leads, Body 2x1.3mm, Pitch 0.65mm, Lead Span 2.1mm, IPC Medium Density)
footprint PTSP0006JA-A_L (SOT363, 6-Leads, Body 2x1.3mm, Pitch 0.65mm, Lead Span 2.1mm, IPC High Density)
footprint PTSP0006JA-A_M (SOT363, 6-Leads, Body 2x1.3mm, Pitch 0.65mm, Lead Span 2.1mm, IPC Low Density)
pins on every part: 2 GND (power) hidden, 5 VCC (power) hidden
part A pins: 1 1A (in), 6 1~{Y} (out)
part B pins: 3 2A (in), 4 2~{Y} (out)

## HD74LV1GW16ACM
designator U?
Dual Buffer; Published: 10-Feb-2010; DatasheetVersion: Rev.2.00, May-2006; PackageVersion: Jan-2005; PackageReference: PTSP0006JA-A; Publisher: Altium Limited; PackageDescription: 6-Pin Plastic SOT-363 Package 0.65 mm Pitch, 2.1 mm Lead Span; Code_JEITA: SC-88; ComponentLink1Description: Manufacturer Link; ComponentLink1URL: http://sg.renesas.com/fmwk.jsp?cnt=unilogic_lva_lvta_root.jsp&fp=/products/standard_ic/general_purpose_logic/uni_logic/unilogic_lva_lvta/; ComponentLink2Description: Datasheet; ComponentLink2URL: http://documentation.renesas.com/eng/products/logic/rej03d0078_hd74lv1gw16a.pdf; ComponentLink3Description: Packaging Specification; ComponentLink3URL: http://sg.renesas.com/media/products/common_info/package/pdf/ic/code/ptsp0006ja_a.pdf
footprint PTSP0006JA-A_N (SOT363, 6-Leads, Body 2x1.3mm, Pitch 0.65mm, Lead Span 2.1mm, IPC Medium Density)
footprint PTSP0006JA-A_L (SOT363, 6-Leads, Body 2x1.3mm, Pitch 0.65mm, Lead Span 2.1mm, IPC High Density)
footprint PTSP0006JA-A_M (SOT363, 6-Leads, Body 2x1.3mm, Pitch 0.65mm, Lead Span 2.1mm, IPC Low Density)
pins on every part: 2 GND (power) hidden, 5 VCC (power) hidden
part A pins: 1 1A (in), 6 1Y (out)
part B pins: 3 2A (in), 4 2Y (out)

## HD74LV1GW17ACM
designator U?
Dual Buffer with Schmitt Trigger Inputs; Published: 10-Feb-2010; DatasheetVersion: Rev.2.00, May-2006; PackageVersion: Jan-2005; PackageReference: PTSP0006JA-A; Publisher: Altium Limited; PackageDescription: 6-Pin Plastic SOT-363 Package 0.65 mm Pitch, 2.1 mm Lead Span; Code_JEITA: SC-88; ComponentLink1Description: Manufacturer Link; ComponentLink1URL: http://sg.renesas.com/fmwk.jsp?cnt=unilogic_lva_lvta_root.jsp&fp=/products/standard_ic/general_purpose_logic/uni_logic/unilogic_lva_lvta/; ComponentLink2Description: Datasheet; ComponentLink2URL: http://documentation.renesas.com/eng/products/logic/rej03d0079_hd74lv1gw17a.pdf; ComponentLink3Description: Packaging Specification; ComponentLink3URL: http://sg.renesas.com/media/products/common_info/package/pdf/ic/code/ptsp0006ja_a.pdf
footprint PTSP0006JA-A_N (SOT363, 6-Leads, Body 2x1.3mm, Pitch 0.65mm, Lead Span 2.1mm, IPC Medium Density)
footprint PTSP0006JA-A_L (SOT363, 6-Leads, Body 2x1.3mm, Pitch 0.65mm, Lead Span 2.1mm, IPC High Density)
footprint PTSP0006JA-A_M (SOT363, 6-Leads, Body 2x1.3mm, Pitch 0.65mm, Lead Span 2.1mm, IPC Low Density)
pins on every part: 2 GND (power) hidden, 5 VCC (power) hidden
part A pins: 1 1A (in), 6 1Y (out)
part B pins: 3 2A (in), 4 2Y (out)

## HD74LV1GW53ACM
designator U?
2-Channel Analog Multiplexer / Demultiplexer; Published: 10-Feb-2010; DatasheetVersion: Rev.2.00, May-2006; PackageVersion: Jan-2005; PackageReference: PTSP0006JA-A; Publisher: Altium Limited; PackageDescription: 6-Pin Plastic SOT-363 Package 0.65 mm Pitch, 2.1 mm Lead Span; Code_JEITA: SC-88; ComponentLink1Description: Manufacturer Link; ComponentLink1URL: http://sg.renesas.com/fmwk.jsp?cnt=unilogic_lva_lvta_root.jsp&fp=/products/standard_ic/general_purpose_logic/uni_logic/unilogic_lva_lvta/; ComponentLink2Description: Datasheet; ComponentLink2URL: http://documentation.renesas.com/eng/products/logic/rej03d0080_hd74lv1gw53a.pdf; ComponentLink3Description: Packaging Specification; ComponentLink3URL: http://sg.renesas.com/media/products/common_info/package/pdf/ic/code/ptsp0006ja_a.pdf
footprint PTSP0006JA-A_N (SOT363, 6-Leads, Body 2x1.3mm, Pitch 0.65mm, Lead Span 2.1mm, IPC Medium Density)
footprint PTSP0006JA-A_L (SOT363, 6-Leads, Body 2x1.3mm, Pitch 0.65mm, Lead Span 2.1mm, IPC High Density)
footprint PTSP0006JA-A_M (SOT363, 6-Leads, Body 2x1.3mm, Pitch 0.65mm, Lead Span 2.1mm, IPC Low Density)
pins: 1 Y1 (io), 2 GND (power), 3 Y0 (io), 4 COM (io), 5 VCC (power), 6 A (in)

## HD74LV1GW57ACM
designator U?
Configurable Multiple-Function Gate; Published: 10-Feb-2010; DatasheetVersion: Rev.2.00, May-2006; PackageVersion: Jan-2005; PackageReference: PTSP0006JA-A; Publisher: Altium Limited; PackageDescription: 6-Pin Plastic SOT-363 Package 0.65 mm Pitch, 2.1 mm Lead Span; Code_JEITA: SC-88; ComponentLink1Description: Manufacturer Link; ComponentLink1URL: http://sg.renesas.com/fmwk.jsp?cnt=unilogic_lva_lvta_root.jsp&fp=/products/standard_ic/general_purpose_logic/uni_logic/unilogic_lva_lvta/; ComponentLink2Description: Datasheet; ComponentLink2URL: http://documentation.renesas.com/eng/products/logic/rej03d0081_hd74lv1gw57a.pdf; ComponentLink3Description: Packaging Specification; ComponentLink3URL: http://sg.renesas.com/media/products/common_info/package/pdf/ic/code/ptsp0006ja_a.pdf
footprint PTSP0006JA-A_N (SOT363, 6-Leads, Body 2x1.3mm, Pitch 0.65mm, Lead Span 2.1mm, IPC Medium Density)
footprint PTSP0006JA-A_L (SOT363, 6-Leads, Body 2x1.3mm, Pitch 0.65mm, Lead Span 2.1mm, IPC High Density)
footprint PTSP0006JA-A_M (SOT363, 6-Leads, Body 2x1.3mm, Pitch 0.65mm, Lead Span 2.1mm, IPC Low Density)
pins: 1 IN1 (in), 2 GND (power), 3 IN0 (in), 4 Y (out), 5 VCC (power), 6 IN2 (in)

## HD74LV1GW58ACM
designator U?
Configurable Multiple-Function Gate; Published: 10-Feb-2010; DatasheetVersion: Rev.2.00, May-2006; PackageVersion: Jan-2005; PackageReference: PTSP0006JA-A; Publisher: Altium Limited; PackageDescription: 6-Pin Plastic SOT-363 Package 0.65 mm Pitch, 2.1 mm Lead Span; Code_JEITA: SC-88; ComponentLink1Description: Manufacturer Link; ComponentLink1URL: http://sg.renesas.com/fmwk.jsp?cnt=unilogic_lva_lvta_root.jsp&fp=/products/standard_ic/general_purpose_logic/uni_logic/unilogic_lva_lvta/; ComponentLink2Description: Datasheet; ComponentLink2URL: http://documentation.renesas.com/eng/products/logic/rej03d0082_hd74lv1gw58a.pdf; ComponentLink3Description: Packaging Specification; ComponentLink3URL: http://sg.renesas.com/media/products/common_info/package/pdf/ic/code/ptsp0006ja_a.pdf
footprint PTSP0006JA-A_N (SOT363, 6-Leads, Body 2x1.3mm, Pitch 0.65mm, Lead Span 2.1mm, IPC Medium Density)
footprint PTSP0006JA-A_L (SOT363, 6-Leads, Body 2x1.3mm, Pitch 0.65mm, Lead Span 2.1mm, IPC High Density)
footprint PTSP0006JA-A_M (SOT363, 6-Leads, Body 2x1.3mm, Pitch 0.65mm, Lead Span 2.1mm, IPC Low Density)
pins: 1 IN1 (in), 2 GND (power), 3 IN0 (in), 4 Y (out), 5 VCC (power), 6 IN2 (in)

## HD74LV1GW97ACM
designator U?
Configurable Multiple-Function Gate; Published: 10-Feb-2010; DatasheetVersion: Rev.3.00, May-2006; PackageVersion: Jan-2005; PackageReference: PTSP0006JA-A; Publisher: Altium Limited; PackageDescription: 6-Pin Plastic SOT-363 Package 0.65 mm Pitch, 2.1 mm Lead Span; Code_JEITA: SC-88; ComponentLink1Description: Manufacturer Link; ComponentLink1URL: http://sg.renesas.com/fmwk.jsp?cnt=unilogic_lva_lvta_root.jsp&fp=/products/standard_ic/general_purpose_logic/uni_logic/unilogic_lva_lvta/; ComponentLink2Description: Datasheet; ComponentLink2URL: http://documentation.renesas.com/eng/products/logic/rej03d0083_hd74lv1gw97a.pdf; ComponentLink3Description: Packaging Specification; ComponentLink3URL: http://sg.renesas.com/media/products/common_info/package/pdf/ic/code/ptsp0006ja_a.pdf
footprint PTSP0006JA-A_N (SOT363, 6-Leads, Body 2x1.3mm, Pitch 0.65mm, Lead Span 2.1mm, IPC Medium Density)
footprint PTSP0006JA-A_L (SOT363, 6-Leads, Body 2x1.3mm, Pitch 0.65mm, Lead Span 2.1mm, IPC High Density)
footprint PTSP0006JA-A_M (SOT363, 6-Leads, Body 2x1.3mm, Pitch 0.65mm, Lead Span 2.1mm, IPC Low Density)
pins: 1 IN1 (in), 2 GND (power), 3 IN0 (in), 4 Y (out), 5 VCC (power), 6 IN2 (in)

## HD74LV1GW98ACM
designator U?
Configurable Multiple-Function Gate; Published: 10-Feb-2010; DatasheetVersion: Rev.3.00, May-2006; PackageVersion: Jan-2005; PackageReference: PTSP0006JA-A; Publisher: Altium Limited; PackageDescription: 6-Pin Plastic SOT-363 Package 0.65 mm Pitch, 2.1 mm Lead Span; Code_JEITA: SC-88; ComponentLink1Description: Manufacturer Link; ComponentLink1URL: http://sg.renesas.com/fmwk.jsp?cnt=unilogic_lva_lvta_root.jsp&fp=/products/standard_ic/general_purpose_logic/uni_logic/unilogic_lva_lvta/; ComponentLink2Description: Datasheet; ComponentLink2URL: http://documentation.renesas.com/eng/products/logic/rej03d0084_hd74lv1gw98a.pdf; ComponentLink3Description: Packaging Specification; ComponentLink3URL: http://sg.renesas.com/media/products/common_info/package/pdf/ic/code/ptsp0006ja_a.pdf
footprint PTSP0006JA-A_N (SOT363, 6-Leads, Body 2x1.3mm, Pitch 0.65mm, Lead Span 2.1mm, IPC Medium Density)
footprint PTSP0006JA-A_L (SOT363, 6-Leads, Body 2x1.3mm, Pitch 0.65mm, Lead Span 2.1mm, IPC High Density)
footprint PTSP0006JA-A_M (SOT363, 6-Leads, Body 2x1.3mm, Pitch 0.65mm, Lead Span 2.1mm, IPC Low Density)
pins: 1 IN1 (in), 2 GND (power), 3 IN0 (in), 4 Y (out), 5 VCC (power), 6 IN2 (in)

## HD74LV1GWU04ACM
designator U?
Dual Unbuffer Inverter; Published: 10-Feb-2010; DatasheetVersion: Rev.2.00, May-2006; PackageVersion: Jan-2005; PackageReference: PTSP0006JA-A; Publisher: Altium Limited; PackageDescription: 6-Pin Plastic SOT-363 Package 0.65 mm Pitch, 2.1 mm Lead Span; Code_JEITA: SC-88; ComponentLink1Description: Manufacturer Link; ComponentLink1URL: http://sg.renesas.com/fmwk.jsp?cnt=unilogic_lva_lvta_root.jsp&fp=/products/standard_ic/general_purpose_logic/uni_logic/unilogic_lva_lvta/; ComponentLink2Description: Datasheet; ComponentLink2URL: http://documentation.renesas.com/eng/products/logic/rej03d0074_hd74lv1gwU04a.pdf; ComponentLink3Description: Packaging Specification; ComponentLink3URL: http://sg.renesas.com/media/products/common_info/package/pdf/ic/code/ptsp0006ja_a.pdf
footprint PTSP0006JA-A_N (SOT363, 6-Leads, Body 2x1.3mm, Pitch 0.65mm, Lead Span 2.1mm, IPC Medium Density)
footprint PTSP0006JA-A_L (SOT363, 6-Leads, Body 2x1.3mm, Pitch 0.65mm, Lead Span 2.1mm, IPC High Density)
footprint PTSP0006JA-A_M (SOT363, 6-Leads, Body 2x1.3mm, Pitch 0.65mm, Lead Span 2.1mm, IPC Low Density)
pins on every part: 2 GND (power) hidden, 5 VCC (power) hidden
part A pins: 1 1A (in), 6 1~{Y} (out)
part B pins: 3 2A (in), 4 2~{Y} (out)

## HD74LV02AFP
designator U?
Quad 2-Input NOR Gates; Published: 10-Feb-2010; DatasheetVersion: Rev.3.00, May-2004; PackageVersion: Sep-2005; PackageReference: PRSP0014DF-B; Publisher: Altium Limited; PackageDescription: 14-Pin Plastic Small Outline Package, 10.06 x 5.5 mm Body, 1.27 mm Pitch; Code_JEITA: P-SOP14-5.5x10.06-1.27; ComponentLink1Description: Manufacturer Link; ComponentLink1URL: http://sg.renesas.com/fmwk.jsp?cnt=hd74lv_a_root.jsp&fp=/products/standard_ic/general_purpose_logic/low_voltage_logic/hd74lv_a/; ComponentLink2Description: Datasheet; ComponentLink2URL: http://documentation.renesas.com/eng/products/logic/rej03d0226_hd74lv02a.pdf; ComponentLink3Description: Packaging Specification; ComponentLink3URL: http://sg.renesas.com/media/products/common_info/package/pdf/ic/code/prsp0014df_b.pdf
footprint PRSP0014DF-B_N (SOP, 14-Leads, Body 10.06x5.5mm, Pitch 1.27mm, IPC Medium Density)
footprint PRSP0014DF-B_L (SOP, 14-Leads, Body 10.06x5.5mm, Pitch 1.27mm, IPC High Density)
footprint PRSP0014DF-B_M (SOP, 14-Leads, Body 10.06x5.5mm, Pitch 1.27mm, IPC Low Density)
pins on every part: 7 GND (power) hidden, 14 VCC (power) hidden
part A pins: 1 1Y (out), 2 1A (in), 3 1B (in)
part B pins: 4 2Y (out), 5 2A (in), 6 2B (in)
part C pins: 8 3A (in), 9 3B (in), 10 3Y (out)
part D pins: 11 4A (in), 12 4B (in), 13 4Y (out)

## HD74LV02AT
designator U?
Quad 2-Input NOR Gates; Published: 10-Feb-2010; DatasheetVersion: Rev.3.00, May-2004; PackageVersion: Sep-2005; PackageReference: PTSP0014JA-B; Publisher: Altium Limited; PackageDescription: 14-Pin Plastic Thin Small Outline Package 0.65 mm Pitch; Code_JEITA: P-TSSOP14-4.4x5-0.65; ComponentLink1Description: Manufacturer Link; ComponentLink1URL: http://sg.renesas.com/fmwk.jsp?cnt=hd74lv_a_root.jsp&fp=/products/standard_ic/general_purpose_logic/low_voltage_logic/hd74lv_a/; ComponentLink2Description: Datasheet; ComponentLink2URL: http://documentation.renesas.com/eng/products/logic/rej03d0226_hd74lv02a.pdf; ComponentLink3Description: Packaging Specification; ComponentLink3URL: http://sg.renesas.com/media/products/common_info/package/pdf/ic/code/ptsp0014ja_b.pdf
footprint PTSP0014JA-B_N (TSOP, 14-Leads, Body 5x4.4mm, Pitch 0.65mm, IPC Medium Density)
footprint PTSP0014JA-B_L (TSOP, 14-Leads, Body 5x4.4mm, Pitch 0.65mm, IPC High Density)
footprint PTSP0014JA-B_M (TSOP, 14-Leads, Body 5x4.4mm, Pitch 0.65mm, IPC Low Density)
pins on every part: 7 GND (power) hidden, 14 VCC (power) hidden
part A pins: 1 1Y (out), 2 1A (in), 3 1B (in)
part B pins: 4 2Y (out), 5 2A (in), 6 2B (in)
part C pins: 8 3A (in), 9 3B (in), 10 3Y (out)
part D pins: 11 4A (in), 12 4B (in), 13 4Y (out)

## HD74LV2G00AUS
designator U?
Dual 2-Input NAND Gates; Published: 10-Feb-2010; DatasheetVersion: Rev.3.00, Sep-2003; PackageVersion: Sep-2005; PackageReference: PVSP0008KA-A; Publisher: Altium Limited; PackageDescription: 8-Pin Plastic Thin Shrink Small Outline Package 0.5 mm Pitch; Code_JEITA: P-VSSOP8-2.3x2-0.50; ComponentLink1Description: Manufacturer Link; ComponentLink1URL: http://sg.renesas.com/fmwk.jsp?cnt=unilogic_lva_lvta_root.jsp&fp=/products/standard_ic/general_purpose_logic/uni_logic/unilogic_lva_lvta/; ComponentLink2Description: Datasheet; ComponentLink2URL: http://documentation.renesas.com/eng/products/logic/rej03d0086_hd74lv2g00a.pdf; ComponentLink3Description: Packaging Specification; ComponentLink3URL: http://sg.renesas.com/media/products/common_info/package/pdf/ic/code/pvsp0008ka_a.pdf
footprint PVSP0008KA-A_N (TSSOP, 8-Leads, Body 2x2.3mm, Pitch 0.5mm, IPC Medium Density)
footprint PVSP0008KA-A_L (TSSOP, 8-Leads, Body 2x2.3mm, Pitch 0.5mm, IPC High Density)
footprint PVSP0008KA-A_M (TSSOP, 8-Leads, Body 2x2.3mm, Pitch 0.5mm, IPC Low Density)
pins on every part: 4 GND (power) hidden, 8 VCC (power) hidden
part A pins: 1 1A (in), 2 1B (in), 7 1Y (out)
part B pins: 3 2Y (out), 5 2A (in), 6 2B (in)

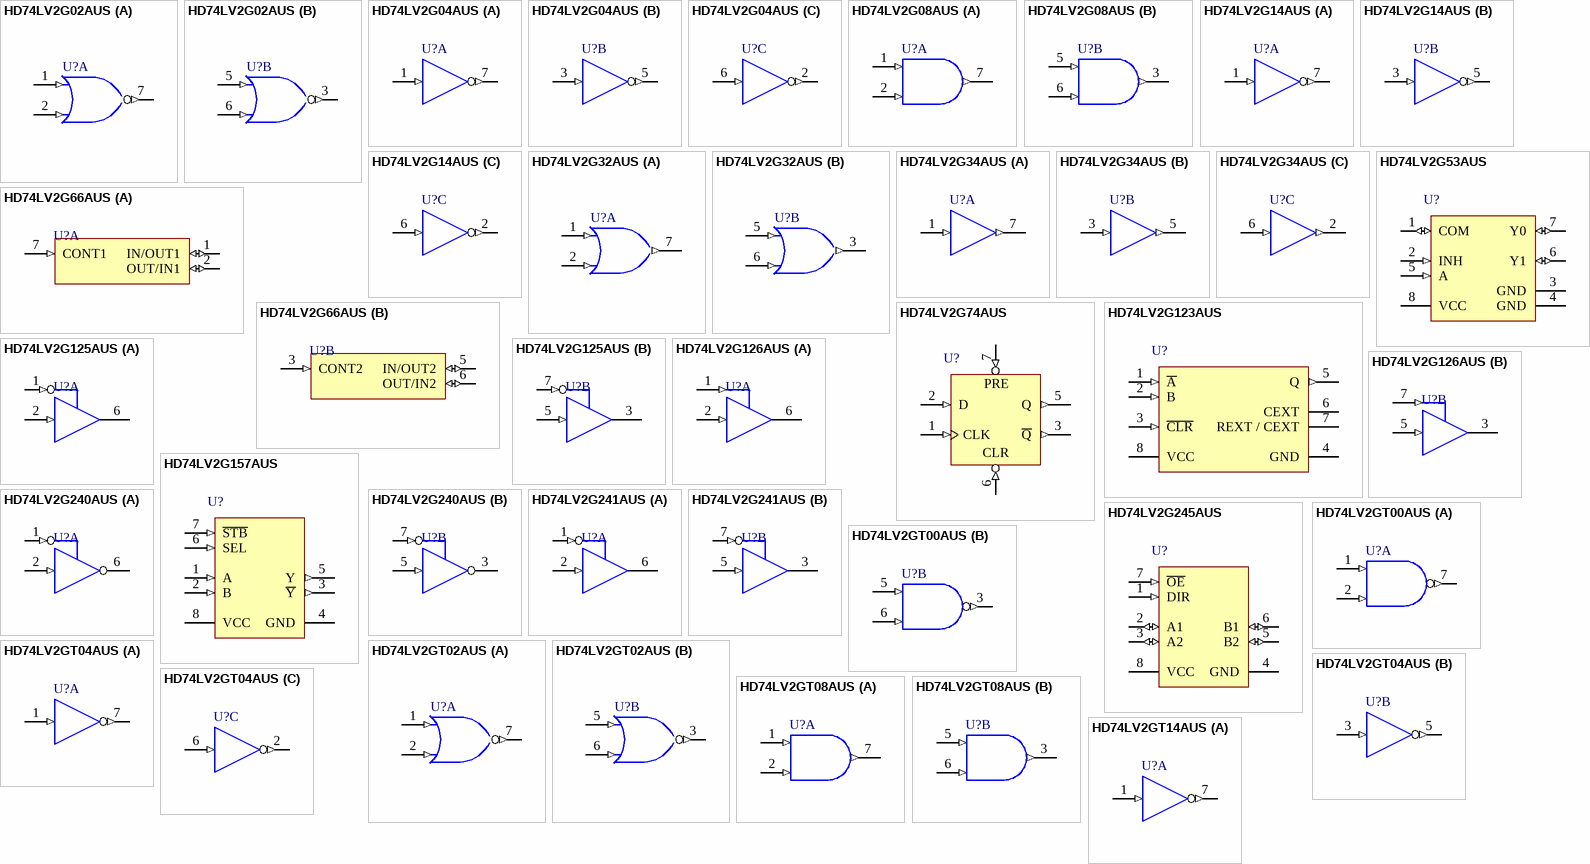
[diagram p40: symbols HD74LV2G02AUS to HD74LV2GT14AUS]

## HD74LV2G02AUS
designator U?
Dual 2-Input NOR Gates; Published: 10-Feb-2010; DatasheetVersion: Rev.3.00, Sep-2003; PackageVersion: Sep-2005; PackageReference: PVSP0008KA-A; Publisher: Altium Limited; PackageDescription: 8-Pin Plastic Thin Shrink Small Outline Package 0.5 mm Pitch; Code_JEITA: P-VSSOP8-2.3x2-0.50; ComponentLink1Description: Manufacturer Link; ComponentLink1URL: http://sg.renesas.com/fmwk.jsp?cnt=unilogic_lva_lvta_root.jsp&fp=/products/standard_ic/general_purpose_logic/uni_logic/unilogic_lva_lvta/; ComponentLink2Description: Datasheet; ComponentLink2URL: http://documentation.renesas.com/eng/products/logic/rej03d0087_hd74lv2g02a.pdf; ComponentLink3Description: Packaging Specification; ComponentLink3URL: http://sg.renesas.com/media/products/common_info/package/pdf/ic/code/pvsp0008ka_a.pdf
footprint PVSP0008KA-A_N (TSSOP, 8-Leads, Body 2x2.3mm, Pitch 0.5mm, IPC Medium Density)
footprint PVSP0008KA-A_L (TSSOP, 8-Leads, Body 2x2.3mm, Pitch 0.5mm, IPC High Density)
footprint PVSP0008KA-A_M (TSSOP, 8-Leads, Body 2x2.3mm, Pitch 0.5mm, IPC Low Density)
pins on every part: 4 GND (power) hidden, 8 VCC (power) hidden
part A pins: 1 1A (in), 2 1B (in), 7 1Y (out)
part B pins: 3 2Y (out), 5 2A (in), 6 2B (in)

## HD74LV2G04AUS
designator U?
Triple Inverters; Published: 10-Feb-2010; DatasheetVersion: Rev.3.00, Sep-2003; PackageVersion: Sep-2005; PackageReference: PVSP0008KA-A; Publisher: Altium Limited; PackageDescription: 8-Pin Plastic Thin Shrink Small Outline Package 0.5 mm Pitch; Code_JEITA: P-VSSOP8-2.3x2-0.50; ComponentLink1Description: Manufacturer Link; ComponentLink1URL: http://sg.renesas.com/fmwk.jsp?cnt=unilogic_lva_lvta_root.jsp&fp=/products/standard_ic/general_purpose_logic/uni_logic/unilogic_lva_lvta/; ComponentLink2Description: Datasheet; ComponentLink2URL: http://documentation.renesas.com/eng/products/logic/rej03d0088_hd74lv2g04a.pdf; ComponentLink3Description: Packaging Specification; ComponentLink3URL: http://sg.renesas.com/media/products/common_info/package/pdf/ic/code/pvsp0008ka_a.pdf
footprint PVSP0008KA-A_N (TSSOP, 8-Leads, Body 2x2.3mm, Pitch 0.5mm, IPC Medium Density)
footprint PVSP0008KA-A_L (TSSOP, 8-Leads, Body 2x2.3mm, Pitch 0.5mm, IPC High Density)
footprint PVSP0008KA-A_M (TSSOP, 8-Leads, Body 2x2.3mm, Pitch 0.5mm, IPC Low Density)
pins on every part: 4 GND (power) hidden, 8 VCC (power) hidden
part A pins: 1 1A (in), 7 1~{Y} (out)
part B pins: 3 2A (in), 5 2~{Y} (out)
part C pins: 2 3~{Y} (out), 6 3A (in)

## HD74LV2G08AUS
designator U?
Dual 2-Input AND Gates; Published: 10-Feb-2010; DatasheetVersion: Rev.3.00, Sep-2003; PackageVersion: Sep-2005; PackageReference: PVSP0008KA-A; Publisher: Altium Limited; PackageDescription: 8-Pin Plastic Thin Shrink Small Outline Package 0.5 mm Pitch; Code_JEITA: P-VSSOP8-2.3x2-0.50; ComponentLink1Description: Manufacturer Link; ComponentLink1URL: http://sg.renesas.com/fmwk.jsp?cnt=unilogic_lva_lvta_root.jsp&fp=/products/standard_ic/general_purpose_logic/uni_logic/unilogic_lva_lvta/; ComponentLink2Description: Datasheet; ComponentLink2URL: http://documentation.renesas.com/eng/products/logic/rej03d0090_hd74lv2g08a.pdf; ComponentLink3Description: Packaging Specification; ComponentLink3URL: http://sg.renesas.com/media/products/common_info/package/pdf/ic/code/pvsp0008ka_a.pdf
footprint PVSP0008KA-A_N (TSSOP, 8-Leads, Body 2x2.3mm, Pitch 0.5mm, IPC Medium Density)
footprint PVSP0008KA-A_L (TSSOP, 8-Leads, Body 2x2.3mm, Pitch 0.5mm, IPC High Density)
footprint PVSP0008KA-A_M (TSSOP, 8-Leads, Body 2x2.3mm, Pitch 0.5mm, IPC Low Density)
pins on every part: 4 GND (power) hidden, 8 VCC (power) hidden
part A pins: 1 1A (in), 2 1B (in), 7 1Y (out)
part B pins: 3 2Y (out), 5 2A (in), 6 2B (in)

## HD74LV2G14AUS
designator U?
Triple Inverters with Schmitt Trigger Inputs; Published: 10-Feb-2010; DatasheetVersion: Rev.3.00, Sep-2003; PackageVersion: Sep-2005; PackageReference: PVSP0008KA-A; Publisher: Altium Limited; PackageDescription: 8-Pin Plastic Thin Shrink Small Outline Package 0.5 mm Pitch; Code_JEITA: P-VSSOP8-2.3x2-0.50; ComponentLink1Description: Manufacturer Link; ComponentLink1URL: http://sg.renesas.com/fmwk.jsp?cnt=unilogic_lva_lvta_root.jsp&fp=/products/standard_ic/general_purpose_logic/uni_logic/unilogic_lva_lvta/; ComponentLink2Description: Datasheet; ComponentLink2URL: http://documentation.renesas.com/eng/products/logic/rej03d0091_hd74lv2g14a.pdf; ComponentLink3Description: Packaging Specification; ComponentLink3URL: http://sg.renesas.com/media/products/common_info/package/pdf/ic/code/pvsp0008ka_a.pdf
footprint PVSP0008KA-A_N (TSSOP, 8-Leads, Body 2x2.3mm, Pitch 0.5mm, IPC Medium Density)
footprint PVSP0008KA-A_L (TSSOP, 8-Leads, Body 2x2.3mm, Pitch 0.5mm, IPC High Density)
footprint PVSP0008KA-A_M (TSSOP, 8-Leads, Body 2x2.3mm, Pitch 0.5mm, IPC Low Density)
pins on every part: 4 GND (power) hidden, 8 VCC (power) hidden
part A pins: 1 1A (in), 7 1~{Y} (out)
part B pins: 3 2A (in), 5 2~{Y} (out)
part C pins: 2 3~{Y} (out), 6 3A (in)

## HD74LV2G32AUS
designator U?
Dual 2-Input OR Gates; Published: 10-Feb-2010; DatasheetVersion: Rev.3.00, Sep-2003; PackageVersion: Sep-2005; PackageReference: PVSP0008KA-A; Publisher: Altium Limited; PackageDescription: 8-Pin Plastic Thin Shrink Small Outline Package 0.5 mm Pitch; Code_JEITA: P-VSSOP8-2.3x2-0.50; ComponentLink1Description: Manufacturer Link; ComponentLink1URL: http://sg.renesas.com/fmwk.jsp?cnt=unilogic_lva_lvta_root.jsp&fp=/products/standard_ic/general_purpose_logic/uni_logic/unilogic_lva_lvta/; ComponentLink2Description: Datasheet; ComponentLink2URL: http://documentation.renesas.com/eng/products/logic/rej03d0092_hd74lv2g32a.pdf; ComponentLink3Description: Packaging Specification; ComponentLink3URL: http://sg.renesas.com/media/products/common_info/package/pdf/ic/code/pvsp0008ka_a.pdf
footprint PVSP0008KA-A_N (TSSOP, 8-Leads, Body 2x2.3mm, Pitch 0.5mm, IPC Medium Density)
footprint PVSP0008KA-A_L (TSSOP, 8-Leads, Body 2x2.3mm, Pitch 0.5mm, IPC High Density)
footprint PVSP0008KA-A_M (TSSOP, 8-Leads, Body 2x2.3mm, Pitch 0.5mm, IPC Low Density)
pins on every part: 4 GND (power) hidden, 8 VCC (power) hidden
part A pins: 1 1A (in), 2 1B (in), 7 1Y (out)
part B pins: 3 2Y (out), 5 2A (in), 6 2B (in)